# EAGLE library part TC2030-SWD (library firefly)
Cortex-M Serial Wire Debug Connector
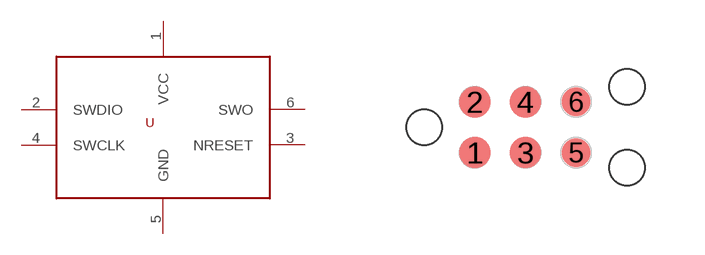
[diagram p8: symbol with the pads of TC2030-MCP-NL; footprint TC2030-MCP-NL]

Designator prefix -

## TC2030-SWD  [TC2030-MCP-NL]
1  VCC
2  SWDIO
3  NRESET
4  SWCLK
5  GND
6  SWO

## Footprint TC2030-MCP-NL (pad centres in mm)
TAG-CONNECT ISP Connector Manufacturer: Tag-Connect <www.tag-connect.com> Cable for easy In-Circuit PCB Programming. Designed for Microchip ICD2, suitable for many others. PAD Description 1 MCLR/Vpp 2 Vdd 3 GND 4 PGD (ISPDAT) 5 PGC (ISPCLK) 6 nc (used for LVP) ©2009 ROFA.cz
smd 0.787 x 0.787: 1 1.27,-0.635; 2 1.27,0.635; 3 2.54,-0.635; 4 2.54,0.635
smd 0.72 x 0.72: 5 3.81,-0.635; 6 3.81,0.635
hole 0.889 at 0,0
hole 0.889 at 5.08,-1.016
hole 0.889 at 5.08,1.016